# Altium schematic symbol library Transformer.SchLib: 1 symbol
Pins are listed as number, name and electrical type; pins without a type are passive.

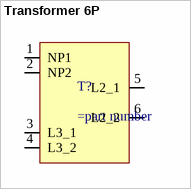
[diagram p0: symbol Transformer 6P]

## Transformer 6P
designator T?
pins: 1 NP1, 2 NP2, 3 L3_1, 4 L3_2, 5 L2_1, 6 L2_2